# Altium footprint library Connector_Wire.PcbLib: 326 footprints (part 20 of 21)
Each footprint in its own frame and in the unit in brackets; x right, y up, seen from the top. Pads: shape width x height; smd on the part's side, far side on the other; paste and mask are expansions set on the pad; w line width, h text height; cw(c..) or ccw(c..) is an arc to the next point about the centre after c.
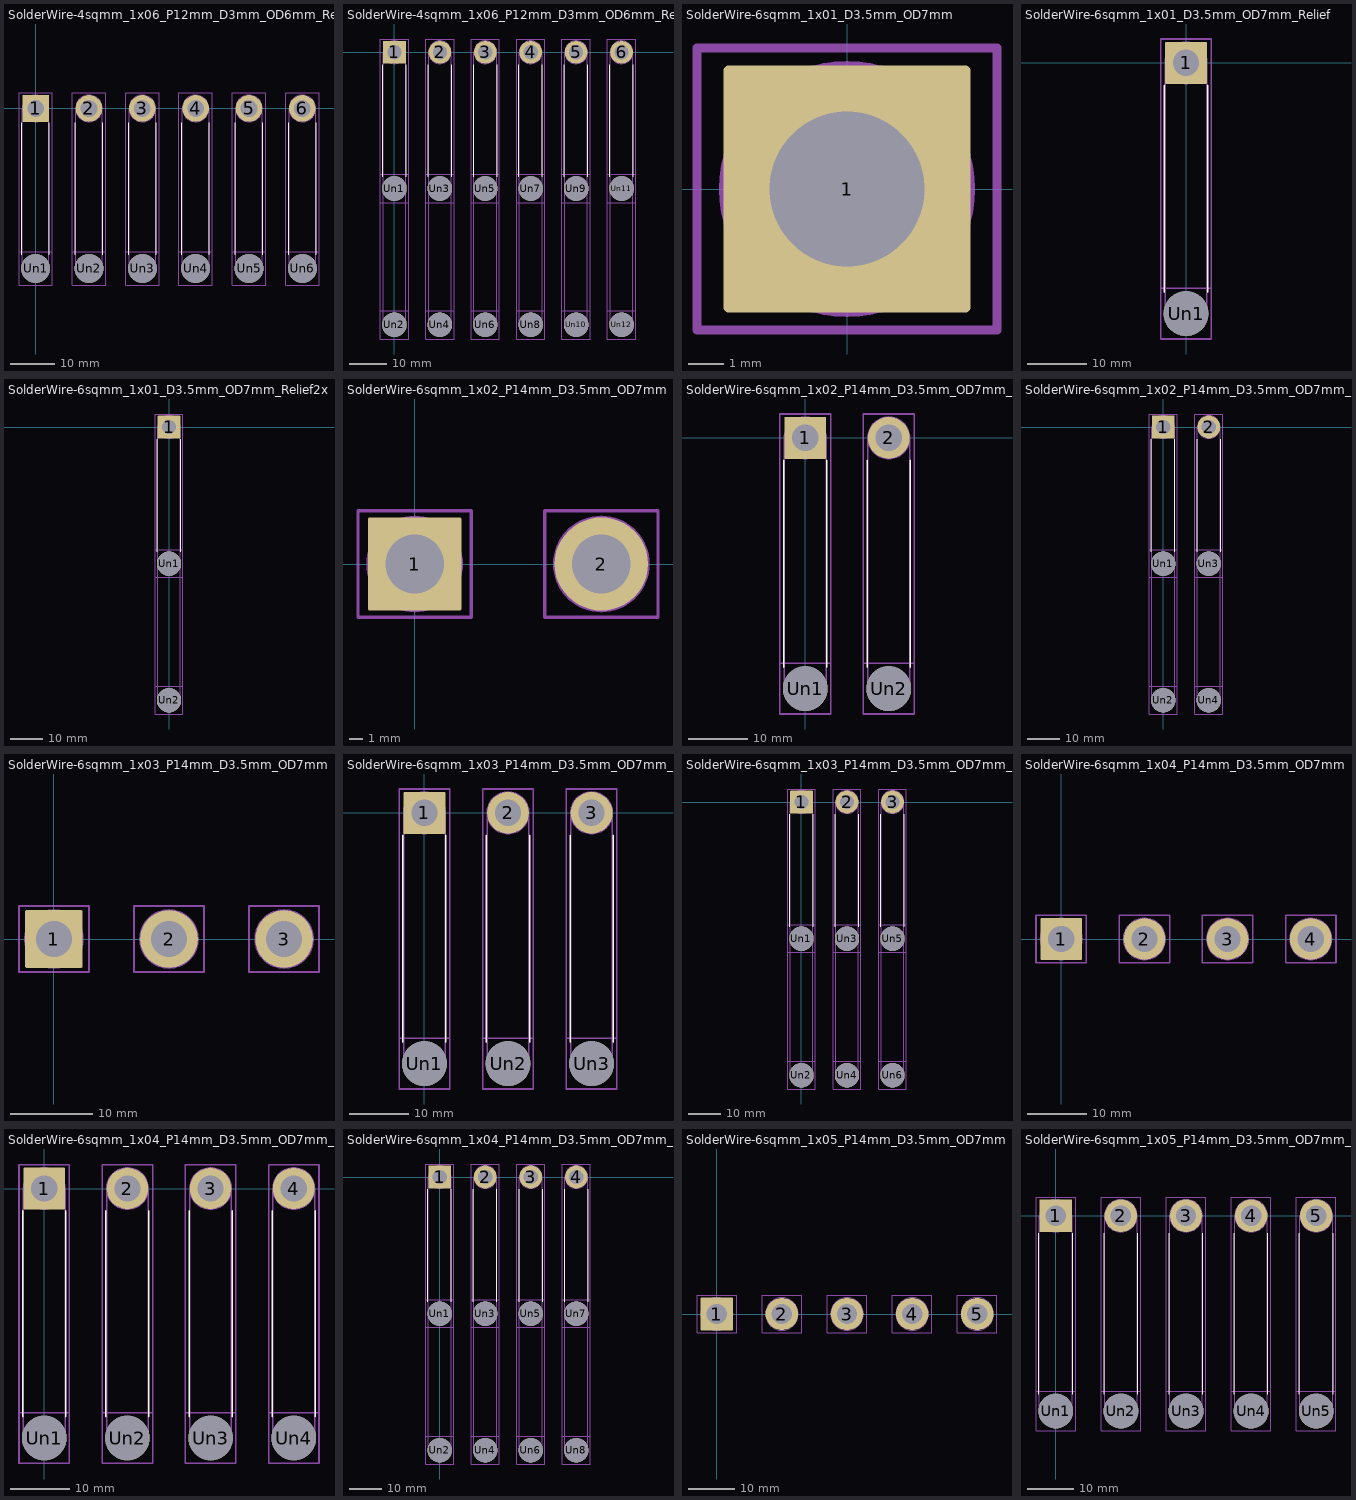
[diagram p19: the footprints below, top view; thin cyan lines are the x and y axes]

## SolderWire-4sqmm_1x06_P12mm_D3mm_OD6mm_Relief [mm]
pads (12):
  rrect4% 6x6 hole 3.75: 1(0,0)
  round 6 hole 3.75: 2(12,0) 3(24,0) 4(36,0) 5(48,0) 6(60,0)
  round 6.5 hole 6.5: Un1(0,-36) Un2(12,-36) Un3(24,-36) Un4(36,-36) Un5(48,-36) Un6(60,-36)
F.SilkS:
  lines w0.254: -3.11,-32.89 -3.11,-3.26 ; 3.11,-32.89 3.11,-3.26 ; 8.89,-32.89 8.89,-3.26 ; 15.11,-32.89 15.11,-3.26 ; 20.89,-32.89 20.89,-3.26 ; 27.11,-32.89 27.11,-3.26 ; 32.89,-32.89 32.89,-3.26 ; 39.11,-32.89 39.11,-3.26 ; 44.89,-32.89 44.89,-3.26 ; 51.11,-32.89 51.11,-3.26 ; 56.89,-32.89 56.89,-3.26 ; 63.11,-32.89 63.11,-3.26
Top Assembly:
  circle w0.254: c60,-36 r3
  circle w0.254: c60,0 r3
  circle w0.254: c48,-36 r3
  circle w0.254: c48,0 r3
  circle w0.254: c36,-36 r3
  circle w0.254: c36,0 r3
  circle w0.254: c24,-36 r3
  circle w0.254: c24,0 r3
  circle w0.254: c12,-36 r3
  circle w0.254: c12,0 r3
  circle w0.254: c0,-36 r3
  circle w0.254: c0,0 r3
  lines w0.254: -3,-36 -3,0 ; 3,-36 3,0 ; 9,-36 9,0 ; 15,-36 15,0 ; 21,-36 21,0 ; 27,-36 27,0 ; 33,-36 33,0 ; 39,-36 39,0 ; 45,-36 45,0 ; 51,-36 51,0 ; 57,-36 57,0 ; 63,-36 63,0
  text "'.Designator'" at 25.953,-18.84 h1
Top Courtyard:
  lines w0.254: -3.75,-39.75 3.75,-39.75 3.75,3.5 -3.75,3.5 -3.75,-39.75 ; 8.25,-39.75 15.75,-39.75 15.75,3.5 8.25,3.5 8.25,-39.75 ; 20.25,-39.75 27.75,-39.75 27.75,3.5 20.25,3.5 20.25,-39.75 ; 32.25,-39.75 39.75,-39.75 39.75,3.5 32.25,3.5 32.25,-39.75 ; 44.25,-39.75 51.75,-39.75 51.75,3.5 44.25,3.5 44.25,-39.75 ; 56.25,-39.75 63.75,-39.75 63.75,3.5 56.25,3.5 56.25,-39.75
Bottom Courtyard:
  lines w0.254: -3.75,-39.75 3.75,-39.75 3.75,-32.25 -3.75,-32.25 -3.75,-39.75 ; 8.25,-39.75 15.75,-39.75 15.75,-32.25 8.25,-32.25 8.25,-39.75 ; 20.25,-39.75 27.75,-39.75 27.75,-32.25 20.25,-32.25 20.25,-39.75 ; 32.25,-39.75 39.75,-39.75 39.75,-32.25 32.25,-32.25 32.25,-39.75 ; 44.25,-39.75 51.75,-39.75 51.75,-32.25 44.25,-32.25 44.25,-39.75 ; 56.25,-39.75 63.75,-39.75 63.75,-32.25 56.25,-32.25 56.25,-39.75
Top Designator:
  text ".Designator" at 22.382,-18.633 h1.52

## SolderWire-4sqmm_1x06_P12mm_D3mm_OD6mm_Relief2x [mm]
pads (18):
  rrect4% 6x6 hole 3.75: 1(0,0)
  round 6 hole 3.75: 2(12,0) 3(24,0) 4(36,0) 5(48,0) 6(60,0)
  round 6.5 hole 6.5: Un1(0,-36) Un2(0,-72) Un3(12,-36) Un4(12,-72) Un5(24,-36) Un6(24,-72) Un7(36,-36) Un8(36,-72) Un9(48,-36) Un10(48,-72) Un11(60,-36) Un12(60,-72)
F.SilkS:
  lines w0.254: -3.11,-32.89 -3.11,-3.26 ; 3.11,-32.89 3.11,-3.26 ; 8.89,-32.89 8.89,-3.26 ; 15.11,-32.89 15.11,-3.26 ; 20.89,-32.89 20.89,-3.26 ; 27.11,-32.89 27.11,-3.26 ; 32.89,-32.89 32.89,-3.26 ; 39.11,-32.89 39.11,-3.26 ; 44.89,-32.89 44.89,-3.26 ; 51.11,-32.89 51.11,-3.26 ; 56.89,-32.89 56.89,-3.26 ; 63.11,-32.89 63.11,-3.26
B.SilkS:
  lines w0.254: -3.11,-68.89 -3.11,-39.11 ; 3.11,-68.89 3.11,-39.11 ; 8.89,-68.89 8.89,-39.11 ; 15.11,-68.89 15.11,-39.11 ; 20.89,-68.89 20.89,-39.11 ; 27.11,-68.89 27.11,-39.11 ; 32.89,-68.89 32.89,-39.11 ; 39.11,-68.89 39.11,-39.11 ; 44.89,-68.89 44.89,-39.11 ; 51.11,-68.89 51.11,-39.11 ; 56.89,-68.89 56.89,-39.11 ; 63.11,-68.89 63.11,-39.11
Top Assembly:
  circle w0.254: c60,-72 r3
  circle w0.254: c60,-36 r3
  circle w0.254: c60,0 r3
  circle w0.254: c48,-72 r3
  circle w0.254: c48,-36 r3
  circle w0.254: c48,0 r3
  circle w0.254: c36,-72 r3
  circle w0.254: c36,-36 r3
  circle w0.254: c36,0 r3
  circle w0.254: c24,-72 r3
  circle w0.254: c24,-36 r3
  circle w0.254: c24,0 r3
  circle w0.254: c12,-72 r3
  circle w0.254: c12,-36 r3
  circle w0.254: c12,0 r3
  circle w0.254: c0,-72 r3
  circle w0.254: c0,-36 r3
  circle w0.254: c0,0 r3
  lines w0.254: -3,-36 -3,0 ; 3,-36 3,0 ; 9,-36 9,0 ; 15,-36 15,0 ; 21,-36 21,0 ; 27,-36 27,0 ; 33,-36 33,0 ; 39,-36 39,0 ; 45,-36 45,0 ; 51,-36 51,0 ; 57,-36 57,0 ; 63,-36 63,0
  text "'.Designator'" at 25.953,-18.84 h1
Bottom Assembly:
  circle w0.254: c60,-72 r3
  circle w0.254: c60,-36 r3
  circle w0.254: c48,-72 r3
  circle w0.254: c48,-36 r3
  circle w0.254: c36,-72 r3
  circle w0.254: c36,-36 r3
  circle w0.254: c24,-72 r3
  circle w0.254: c24,-36 r3
  circle w0.254: c12,-72 r3
  circle w0.254: c12,-36 r3
  circle w0.254: c0,-72 r3
  circle w0.254: c0,-36 r3
  lines w0.254: -3,-72 -3,-36 ; 3,-72 3,-36 ; 9,-72 9,-36 ; 15,-72 15,-36 ; 21,-72 21,-36 ; 27,-72 27,-36 ; 33,-72 33,-36 ; 39,-72 39,-36 ; 45,-72 45,-36 ; 51,-72 51,-36 ; 57,-72 57,-36 ; 63,-72 63,-36
Top Courtyard:
  lines w0.254: -3.75,-75.75 3.75,-75.75 3.75,-68.25 -3.75,-68.25 -3.75,-75.75 ; -3.75,-39.75 3.75,-39.75 3.75,3.5 -3.75,3.5 -3.75,-39.75 ; 8.25,-75.75 15.75,-75.75 15.75,-68.25 8.25,-68.25 8.25,-75.75 ; 8.25,-39.75 15.75,-39.75 15.75,3.5 8.25,3.5 8.25,-39.75 ; 20.25,-75.75 27.75,-75.75 27.75,-68.25 20.25,-68.25 20.25,-75.75 ; 20.25,-39.75 27.75,-39.75 27.75,3.5 20.25,3.5 20.25,-39.75 ; 32.25,-75.75 39.75,-75.75 39.75,-68.25 32.25,-68.25 32.25,-75.75 ; 32.25,-39.75 39.75,-39.75 39.75,3.5 32.25,3.5 32.25,-39.75 ; 44.25,-75.75 51.75,-75.75 51.75,-68.25 44.25,-68.25 44.25,-75.75 ; 44.25,-39.75 51.75,-39.75 51.75,3.5 44.25,3.5 44.25,-39.75 ; 56.25,-75.75 63.75,-75.75 63.75,-68.25 56.25,-68.25 56.25,-75.75 ; 56.25,-39.75 63.75,-39.75 63.75,3.5 56.25,3.5 56.25,-39.75
Bottom Courtyard:
  lines w0.254: -3.75,-75.75 3.75,-75.75 3.75,-32.25 -3.75,-32.25 -3.75,-75.75 ; 8.25,-75.75 15.75,-75.75 15.75,-32.25 8.25,-32.25 8.25,-75.75 ; 20.25,-75.75 27.75,-75.75 27.75,-32.25 20.25,-32.25 20.25,-75.75 ; 32.25,-75.75 39.75,-75.75 39.75,-32.25 32.25,-32.25 32.25,-75.75 ; 44.25,-75.75 51.75,-75.75 51.75,-32.25 44.25,-32.25 44.25,-75.75 ; 56.25,-75.75 63.75,-75.75 63.75,-32.25 56.25,-32.25 56.25,-75.75
Top Designator:
  text ".Designator" at 22.382,-36.633 h1.52

## SolderWire-6sqmm_1x01_D3.5mm_OD7mm [mm]
pads (1):
  rrect4% 7x7 hole 4.4: 1(0,0)
Top Assembly:
  circle w0.254: c0,0 r3.5
  text "'.Designator'" at -4.047,-0.84 h1
Top Courtyard:
  lines w0.254: -4.25,-4 4.25,-4 4.25,4 -4.25,4 -4.25,-4
Top Designator:
  text ".Designator" at -7.618,-0.508 h1.52

## SolderWire-6sqmm_1x01_D3.5mm_OD7mm_Relief [mm]
pads (2):
  rrect4% 7x7 hole 4.4: 1(0,0)
  round 7.5 hole 7.5: Un1(0,-42)
F.SilkS:
  lines w0.254: -3.61,-38.39 -3.61,-3.76 ; 3.61,-38.39 3.61,-3.76
Top Assembly:
  circle w0.254: c0,-42 r3.5
  circle w0.254: c0,0 r3.5
  lines w0.254: -3.5,-42 -3.5,0 ; 3.5,-42 3.5,0
  text "'.Designator'" at -4.047,-21.84 h1
Top Courtyard:
  lines w0.254: -4.25,-46.25 4.25,-46.25 4.25,4 -4.25,4 -4.25,-46.25
Bottom Courtyard:
  lines w0.254: -4.25,-46.25 4.25,-46.25 4.25,-37.75 -4.25,-37.75 -4.25,-46.25
Top Designator:
  text ".Designator" at -7.618,-21.633 h1.52

## SolderWire-6sqmm_1x01_D3.5mm_OD7mm_Relief2x [mm]
pads (3):
  rrect4% 7x7 hole 4.4: 1(0,0)
  round 7.5 hole 7.5: Un1(0,-42) Un2(0,-84)
F.SilkS:
  lines w0.254: -3.61,-38.39 -3.61,-3.76 ; 3.61,-38.39 3.61,-3.76
B.SilkS:
  lines w0.254: -3.61,-80.39 -3.61,-45.61 ; 3.61,-80.39 3.61,-45.61
Top Assembly:
  circle w0.254: c0,-84 r3.5
  circle w0.254: c0,-42 r3.5
  circle w0.254: c0,0 r3.5
  lines w0.254: -3.5,-42 -3.5,0 ; 3.5,-42 3.5,0
  text "'.Designator'" at -4.047,-21.84 h1
Bottom Assembly:
  circle w0.254: c0,-84 r3.5
  circle w0.254: c0,-42 r3.5
  lines w0.254: -3.5,-84 -3.5,-42 ; 3.5,-84 3.5,-42
Top Courtyard:
  lines w0.254: -4.25,-88.25 4.25,-88.25 4.25,-79.75 -4.25,-79.75 -4.25,-88.25 ; -4.25,-46.25 4.25,-46.25 4.25,4 -4.25,4 -4.25,-46.25
Bottom Courtyard:
  lines w0.254: -4.25,-88.25 4.25,-88.25 4.25,-37.75 -4.25,-37.75 -4.25,-88.25
Top Designator:
  text ".Designator" at -7.618,-42.633 h1.52

## SolderWire-6sqmm_1x02_P14mm_D3.5mm_OD7mm [mm]
pads (2):
  rrect4% 7x7 hole 4.4: 1(0,0)
  round 7 hole 4.4: 2(14,0)
Top Assembly:
  circle w0.254: c14,0 r3.5
  circle w0.254: c0,0 r3.5
  text "'.Designator'" at 2.953,-0.84 h1
Top Courtyard:
  lines w0.254: -4.25,-4 4.25,-4 4.25,4 -4.25,4 -4.25,-4 ; 9.75,-4 18.25,-4 18.25,4 9.75,4 9.75,-4
Top Designator:
  text ".Designator" at -0.618,-0.508 h1.52

## SolderWire-6sqmm_1x02_P14mm_D3.5mm_OD7mm_Relief [mm]
pads (4):
  rrect4% 7x7 hole 4.4: 1(0,0)
  round 7 hole 4.4: 2(14,0)
  round 7.5 hole 7.5: Un1(0,-42) Un2(14,-42)
F.SilkS:
  lines w0.254: -3.61,-38.39 -3.61,-3.76 ; 3.61,-38.39 3.61,-3.76 ; 10.39,-38.39 10.39,-3.76 ; 17.61,-38.39 17.61,-3.76
Top Assembly:
  circle w0.254: c14,-42 r3.5
  circle w0.254: c14,0 r3.5
  circle w0.254: c0,-42 r3.5
  circle w0.254: c0,0 r3.5
  lines w0.254: -3.5,-42 -3.5,0 ; 3.5,-42 3.5,0 ; 10.5,-42 10.5,0 ; 17.5,-42 17.5,0
  text "'.Designator'" at 2.953,-21.84 h1
Top Courtyard:
  lines w0.254: -4.25,-46.25 4.25,-46.25 4.25,4 -4.25,4 -4.25,-46.25 ; 9.75,-46.25 18.25,-46.25 18.25,4 9.75,4 9.75,-46.25
Bottom Courtyard:
  lines w0.254: -4.25,-46.25 4.25,-46.25 4.25,-37.75 -4.25,-37.75 -4.25,-46.25 ; 9.75,-46.25 18.25,-46.25 18.25,-37.75 9.75,-37.75 9.75,-46.25
Top Designator:
  text ".Designator" at -0.618,-21.633 h1.52

## SolderWire-6sqmm_1x02_P14mm_D3.5mm_OD7mm_Relief2x [mm]
pads (6):
  rrect4% 7x7 hole 4.4: 1(0,0)
  round 7 hole 4.4: 2(14,0)
  round 7.5 hole 7.5: Un1(0,-42) Un2(0,-84) Un3(14,-42) Un4(14,-84)
F.SilkS:
  lines w0.254: -3.61,-38.39 -3.61,-3.76 ; 3.61,-38.39 3.61,-3.76 ; 10.39,-38.39 10.39,-3.76 ; 17.61,-38.39 17.61,-3.76
B.SilkS:
  lines w0.254: -3.61,-80.39 -3.61,-45.61 ; 3.61,-80.39 3.61,-45.61 ; 10.39,-80.39 10.39,-45.61 ; 17.61,-80.39 17.61,-45.61
Top Assembly:
  circle w0.254: c14,-84 r3.5
  circle w0.254: c14,-42 r3.5
  circle w0.254: c14,0 r3.5
  circle w0.254: c0,-84 r3.5
  circle w0.254: c0,-42 r3.5
  circle w0.254: c0,0 r3.5
  lines w0.254: -3.5,-42 -3.5,0 ; 3.5,-42 3.5,0 ; 10.5,-42 10.5,0 ; 17.5,-42 17.5,0
  text "'.Designator'" at 2.953,-21.84 h1
Bottom Assembly:
  circle w0.254: c14,-84 r3.5
  circle w0.254: c14,-42 r3.5
  circle w0.254: c0,-84 r3.5
  circle w0.254: c0,-42 r3.5
  lines w0.254: -3.5,-84 -3.5,-42 ; 3.5,-84 3.5,-42 ; 10.5,-84 10.5,-42 ; 17.5,-84 17.5,-42
Top Courtyard:
  lines w0.254: -4.25,-88.25 4.25,-88.25 4.25,-79.75 -4.25,-79.75 -4.25,-88.25 ; -4.25,-46.25 4.25,-46.25 4.25,4 -4.25,4 -4.25,-46.25 ; 9.75,-88.25 18.25,-88.25 18.25,-79.75 9.75,-79.75 9.75,-88.25 ; 9.75,-46.25 18.25,-46.25 18.25,4 9.75,4 9.75,-46.25
Bottom Courtyard:
  lines w0.254: -4.25,-88.25 4.25,-88.25 4.25,-37.75 -4.25,-37.75 -4.25,-88.25 ; 9.75,-88.25 18.25,-88.25 18.25,-37.75 9.75,-37.75 9.75,-88.25
Top Designator:
  text ".Designator" at -0.618,-42.633 h1.52

## SolderWire-6sqmm_1x03_P14mm_D3.5mm_OD7mm [mm]
pads (3):
  rrect4% 7x7 hole 4.4: 1(0,0)
  round 7 hole 4.4: 2(14,0) 3(28,0)
Top Assembly:
  circle w0.254: c28,0 r3.5
  circle w0.254: c14,0 r3.5
  circle w0.254: c0,0 r3.5
  text "'.Designator'" at 9.953,-0.84 h1
Top Courtyard:
  lines w0.254: -4.25,-4 4.25,-4 4.25,4 -4.25,4 -4.25,-4 ; 9.75,-4 18.25,-4 18.25,4 9.75,4 9.75,-4 ; 23.75,-4 32.25,-4 32.25,4 23.75,4 23.75,-4
Top Designator:
  text ".Designator" at 6.382,-0.508 h1.52

## SolderWire-6sqmm_1x03_P14mm_D3.5mm_OD7mm_Relief [mm]
pads (6):
  rrect4% 7x7 hole 4.4: 1(0,0)
  round 7 hole 4.4: 2(14,0) 3(28,0)
  round 7.5 hole 7.5: Un1(0,-42) Un2(14,-42) Un3(28,-42)
F.SilkS:
  lines w0.254: -3.61,-38.39 -3.61,-3.76 ; 3.61,-38.39 3.61,-3.76 ; 10.39,-38.39 10.39,-3.76 ; 17.61,-38.39 17.61,-3.76 ; 24.39,-38.39 24.39,-3.76 ; 31.61,-38.39 31.61,-3.76
Top Assembly:
  circle w0.254: c28,-42 r3.5
  circle w0.254: c28,0 r3.5
  circle w0.254: c14,-42 r3.5
  circle w0.254: c14,0 r3.5
  circle w0.254: c0,-42 r3.5
  circle w0.254: c0,0 r3.5
  lines w0.254: -3.5,-42 -3.5,0 ; 3.5,-42 3.5,0 ; 10.5,-42 10.5,0 ; 17.5,-42 17.5,0 ; 24.5,-42 24.5,0 ; 31.5,-42 31.5,0
  text "'.Designator'" at 9.953,-21.84 h1
Top Courtyard:
  lines w0.254: -4.25,-46.25 4.25,-46.25 4.25,4 -4.25,4 -4.25,-46.25 ; 9.75,-46.25 18.25,-46.25 18.25,4 9.75,4 9.75,-46.25 ; 23.75,-46.25 32.25,-46.25 32.25,4 23.75,4 23.75,-46.25
Bottom Courtyard:
  lines w0.254: -4.25,-46.25 4.25,-46.25 4.25,-37.75 -4.25,-37.75 -4.25,-46.25 ; 9.75,-46.25 18.25,-46.25 18.25,-37.75 9.75,-37.75 9.75,-46.25 ; 23.75,-46.25 32.25,-46.25 32.25,-37.75 23.75,-37.75 23.75,-46.25
Top Designator:
  text ".Designator" at 6.382,-21.633 h1.52

## SolderWire-6sqmm_1x03_P14mm_D3.5mm_OD7mm_Relief2x [mm]
pads (9):
  rrect4% 7x7 hole 4.4: 1(0,0)
  round 7 hole 4.4: 2(14,0) 3(28,0)
  round 7.5 hole 7.5: Un1(0,-42) Un2(0,-84) Un3(14,-42) Un4(14,-84) Un5(28,-42) Un6(28,-84)
F.SilkS:
  lines w0.254: -3.61,-38.39 -3.61,-3.76 ; 3.61,-38.39 3.61,-3.76 ; 10.39,-38.39 10.39,-3.76 ; 17.61,-38.39 17.61,-3.76 ; 24.39,-38.39 24.39,-3.76 ; 31.61,-38.39 31.61,-3.76
B.SilkS:
  lines w0.254: -3.61,-80.39 -3.61,-45.61 ; 3.61,-80.39 3.61,-45.61 ; 10.39,-80.39 10.39,-45.61 ; 17.61,-80.39 17.61,-45.61 ; 24.39,-80.39 24.39,-45.61 ; 31.61,-80.39 31.61,-45.61
Top Assembly:
  circle w0.254: c28,-84 r3.5
  circle w0.254: c28,-42 r3.5
  circle w0.254: c28,0 r3.5
  circle w0.254: c14,-84 r3.5
  circle w0.254: c14,-42 r3.5
  circle w0.254: c14,0 r3.5
  circle w0.254: c0,-84 r3.5
  circle w0.254: c0,-42 r3.5
  circle w0.254: c0,0 r3.5
  lines w0.254: -3.5,-42 -3.5,0 ; 3.5,-42 3.5,0 ; 10.5,-42 10.5,0 ; 17.5,-42 17.5,0 ; 24.5,-42 24.5,0 ; 31.5,-42 31.5,0
  text "'.Designator'" at 9.953,-21.84 h1
Bottom Assembly:
  circle w0.254: c28,-84 r3.5
  circle w0.254: c28,-42 r3.5
  circle w0.254: c14,-84 r3.5
  circle w0.254: c14,-42 r3.5
  circle w0.254: c0,-84 r3.5
  circle w0.254: c0,-42 r3.5
  lines w0.254: -3.5,-84 -3.5,-42 ; 3.5,-84 3.5,-42 ; 10.5,-84 10.5,-42 ; 17.5,-84 17.5,-42 ; 24.5,-84 24.5,-42 ; 31.5,-84 31.5,-42
Top Courtyard:
  lines w0.254: -4.25,-88.25 4.25,-88.25 4.25,-79.75 -4.25,-79.75 -4.25,-88.25 ; -4.25,-46.25 4.25,-46.25 4.25,4 -4.25,4 -4.25,-46.25 ; 9.75,-88.25 18.25,-88.25 18.25,-79.75 9.75,-79.75 9.75,-88.25 ; 9.75,-46.25 18.25,-46.25 18.25,4 9.75,4 9.75,-46.25 ; 23.75,-88.25 32.25,-88.25 32.25,-79.75 23.75,-79.75 23.75,-88.25 ; 23.75,-46.25 32.25,-46.25 32.25,4 23.75,4 23.75,-46.25
Bottom Courtyard:
  lines w0.254: -4.25,-88.25 4.25,-88.25 4.25,-37.75 -4.25,-37.75 -4.25,-88.25 ; 9.75,-88.25 18.25,-88.25 18.25,-37.75 9.75,-37.75 9.75,-88.25 ; 23.75,-88.25 32.25,-88.25 32.25,-37.75 23.75,-37.75 23.75,-88.25
Top Designator:
  text ".Designator" at 6.382,-42.633 h1.52

## SolderWire-6sqmm_1x04_P14mm_D3.5mm_OD7mm [mm]
pads (4):
  rrect4% 7x7 hole 4.4: 1(0,0)
  round 7 hole 4.4: 2(14,0) 3(28,0) 4(42,0)
Top Assembly:
  circle w0.254: c42,0 r3.5
  circle w0.254: c28,0 r3.5
  circle w0.254: c14,0 r3.5
  circle w0.254: c0,0 r3.5
  text "'.Designator'" at 16.953,-0.84 h1
Top Courtyard:
  lines w0.254: -4.25,-4 4.25,-4 4.25,4 -4.25,4 -4.25,-4 ; 9.75,-4 18.25,-4 18.25,4 9.75,4 9.75,-4 ; 23.75,-4 32.25,-4 32.25,4 23.75,4 23.75,-4 ; 37.75,-4 46.25,-4 46.25,4 37.75,4 37.75,-4
Top Designator:
  text ".Designator" at 13.382,-0.508 h1.52

## SolderWire-6sqmm_1x04_P14mm_D3.5mm_OD7mm_Relief [mm]
pads (8):
  rrect4% 7x7 hole 4.4: 1(0,0)
  round 7 hole 4.4: 2(14,0) 3(28,0) 4(42,0)
  round 7.5 hole 7.5: Un1(0,-42) Un2(14,-42) Un3(28,-42) Un4(42,-42)
F.SilkS:
  lines w0.254: -3.61,-38.39 -3.61,-3.76 ; 3.61,-38.39 3.61,-3.76 ; 10.39,-38.39 10.39,-3.76 ; 17.61,-38.39 17.61,-3.76 ; 24.39,-38.39 24.39,-3.76 ; 31.61,-38.39 31.61,-3.76 ; 38.39,-38.39 38.39,-3.76 ; 45.61,-38.39 45.61,-3.76
Top Assembly:
  circle w0.254: c42,-42 r3.5
  circle w0.254: c42,0 r3.5
  circle w0.254: c28,-42 r3.5
  circle w0.254: c28,0 r3.5
  circle w0.254: c14,-42 r3.5
  circle w0.254: c14,0 r3.5
  circle w0.254: c0,-42 r3.5
  circle w0.254: c0,0 r3.5
  lines w0.254: -3.5,-42 -3.5,0 ; 3.5,-42 3.5,0 ; 10.5,-42 10.5,0 ; 17.5,-42 17.5,0 ; 24.5,-42 24.5,0 ; 31.5,-42 31.5,0 ; 38.5,-42 38.5,0 ; 45.5,-42 45.5,0
  text "'.Designator'" at 16.953,-21.84 h1
Top Courtyard:
  lines w0.254: -4.25,-46.25 4.25,-46.25 4.25,4 -4.25,4 -4.25,-46.25 ; 9.75,-46.25 18.25,-46.25 18.25,4 9.75,4 9.75,-46.25 ; 23.75,-46.25 32.25,-46.25 32.25,4 23.75,4 23.75,-46.25 ; 37.75,-46.25 46.25,-46.25 46.25,4 37.75,4 37.75,-46.25
Bottom Courtyard:
  lines w0.254: -4.25,-46.25 4.25,-46.25 4.25,-37.75 -4.25,-37.75 -4.25,-46.25 ; 9.75,-46.25 18.25,-46.25 18.25,-37.75 9.75,-37.75 9.75,-46.25 ; 23.75,-46.25 32.25,-46.25 32.25,-37.75 23.75,-37.75 23.75,-46.25 ; 37.75,-46.25 46.25,-46.25 46.25,-37.75 37.75,-37.75 37.75,-46.25
Top Designator:
  text ".Designator" at 13.382,-21.633 h1.52

## SolderWire-6sqmm_1x04_P14mm_D3.5mm_OD7mm_Relief2x [mm]
pads (12):
  rrect4% 7x7 hole 4.4: 1(0,0)
  round 7 hole 4.4: 2(14,0) 3(28,0) 4(42,0)
  round 7.5 hole 7.5: Un1(0,-42) Un2(0,-84) Un3(14,-42) Un4(14,-84) Un5(28,-42) Un6(28,-84) Un7(42,-42) Un8(42,-84)
F.SilkS:
  lines w0.254: -3.61,-38.39 -3.61,-3.76 ; 3.61,-38.39 3.61,-3.76 ; 10.39,-38.39 10.39,-3.76 ; 17.61,-38.39 17.61,-3.76 ; 24.39,-38.39 24.39,-3.76 ; 31.61,-38.39 31.61,-3.76 ; 38.39,-38.39 38.39,-3.76 ; 45.61,-38.39 45.61,-3.76
B.SilkS:
  lines w0.254: -3.61,-80.39 -3.61,-45.61 ; 3.61,-80.39 3.61,-45.61 ; 10.39,-80.39 10.39,-45.61 ; 17.61,-80.39 17.61,-45.61 ; 24.39,-80.39 24.39,-45.61 ; 31.61,-80.39 31.61,-45.61 ; 38.39,-80.39 38.39,-45.61 ; 45.61,-80.39 45.61,-45.61
Top Assembly:
  circle w0.254: c42,-84 r3.5
  circle w0.254: c42,-42 r3.5
  circle w0.254: c42,0 r3.5
  circle w0.254: c28,-84 r3.5
  circle w0.254: c28,-42 r3.5
  circle w0.254: c28,0 r3.5
  circle w0.254: c14,-84 r3.5
  circle w0.254: c14,-42 r3.5
  circle w0.254: c14,0 r3.5
  circle w0.254: c0,-84 r3.5
  circle w0.254: c0,-42 r3.5
  circle w0.254: c0,0 r3.5
  lines w0.254: -3.5,-42 -3.5,0 ; 3.5,-42 3.5,0 ; 10.5,-42 10.5,0 ; 17.5,-42 17.5,0 ; 24.5,-42 24.5,0 ; 31.5,-42 31.5,0 ; 38.5,-42 38.5,0 ; 45.5,-42 45.5,0
  text "'.Designator'" at 16.953,-21.84 h1
Bottom Assembly:
  circle w0.254: c42,-84 r3.5
  circle w0.254: c42,-42 r3.5
  circle w0.254: c28,-84 r3.5
  circle w0.254: c28,-42 r3.5
  circle w0.254: c14,-84 r3.5
  circle w0.254: c14,-42 r3.5
  circle w0.254: c0,-84 r3.5
  circle w0.254: c0,-42 r3.5
  lines w0.254: -3.5,-84 -3.5,-42 ; 3.5,-84 3.5,-42 ; 10.5,-84 10.5,-42 ; 17.5,-84 17.5,-42 ; 24.5,-84 24.5,-42 ; 31.5,-84 31.5,-42 ; 38.5,-84 38.5,-42 ; 45.5,-84 45.5,-42
Top Courtyard:
  lines w0.254: -4.25,-88.25 4.25,-88.25 4.25,-79.75 -4.25,-79.75 -4.25,-88.25 ; -4.25,-46.25 4.25,-46.25 4.25,4 -4.25,4 -4.25,-46.25 ; 9.75,-88.25 18.25,-88.25 18.25,-79.75 9.75,-79.75 9.75,-88.25 ; 9.75,-46.25 18.25,-46.25 18.25,4 9.75,4 9.75,-46.25 ; 23.75,-88.25 32.25,-88.25 32.25,-79.75 23.75,-79.75 23.75,-88.25 ; 23.75,-46.25 32.25,-46.25 32.25,4 23.75,4 23.75,-46.25 ; 37.75,-88.25 46.25,-88.25 46.25,-79.75 37.75,-79.75 37.75,-88.25 ; 37.75,-46.25 46.25,-46.25 46.25,4 37.75,4 37.75,-46.25
Bottom Courtyard:
  lines w0.254: -4.25,-88.25 4.25,-88.25 4.25,-37.75 -4.25,-37.75 -4.25,-88.25 ; 9.75,-88.25 18.25,-88.25 18.25,-37.75 9.75,-37.75 9.75,-88.25 ; 23.75,-88.25 32.25,-88.25 32.25,-37.75 23.75,-37.75 23.75,-88.25 ; 37.75,-88.25 46.25,-88.25 46.25,-37.75 37.75,-37.75 37.75,-88.25
Top Designator:
  text ".Designator" at 13.382,-42.633 h1.52

## SolderWire-6sqmm_1x05_P14mm_D3.5mm_OD7mm [mm]
pads (5):
  rrect4% 7x7 hole 4.4: 1(0,0)
  round 7 hole 4.4: 2(14,0) 3(28,0) 4(42,0) 5(56,0)
Top Assembly:
  circle w0.254: c56,0 r3.5
  circle w0.254: c42,0 r3.5
  circle w0.254: c28,0 r3.5
  circle w0.254: c14,0 r3.5
  circle w0.254: c0,0 r3.5
  text "'.Designator'" at 23.953,-0.84 h1
Top Courtyard:
  lines w0.254: -4.25,-4 4.25,-4 4.25,4 -4.25,4 -4.25,-4 ; 9.75,-4 18.25,-4 18.25,4 9.75,4 9.75,-4 ; 23.75,-4 32.25,-4 32.25,4 23.75,4 23.75,-4 ; 37.75,-4 46.25,-4 46.25,4 37.75,4 37.75,-4 ; 51.75,-4 60.25,-4 60.25,4 51.75,4 51.75,-4
Top Designator:
  text ".Designator" at 20.382,-0.508 h1.52

## SolderWire-6sqmm_1x05_P14mm_D3.5mm_OD7mm_Relief [mm]
pads (10):
  rrect4% 7x7 hole 4.4: 1(0,0)
  round 7 hole 4.4: 2(14,0) 3(28,0) 4(42,0) 5(56,0)
  round 7.5 hole 7.5: Un1(0,-42) Un2(14,-42) Un3(28,-42) Un4(42,-42) Un5(56,-42)
F.SilkS:
  lines w0.254: -3.61,-38.39 -3.61,-3.76 ; 3.61,-38.39 3.61,-3.76 ; 10.39,-38.39 10.39,-3.76 ; 17.61,-38.39 17.61,-3.76 ; 24.39,-38.39 24.39,-3.76 ; 31.61,-38.39 31.61,-3.76 ; 38.39,-38.39 38.39,-3.76 ; 45.61,-38.39 45.61,-3.76 ; 52.39,-38.39 52.39,-3.76 ; 59.61,-38.39 59.61,-3.76
Top Assembly:
  circle w0.254: c56,-42 r3.5
  circle w0.254: c56,0 r3.5
  circle w0.254: c42,-42 r3.5
  circle w0.254: c42,0 r3.5
  circle w0.254: c28,-42 r3.5
  circle w0.254: c28,0 r3.5
  circle w0.254: c14,-42 r3.5
  circle w0.254: c14,0 r3.5
  circle w0.254: c0,-42 r3.5
  circle w0.254: c0,0 r3.5
  lines w0.254: -3.5,-42 -3.5,0 ; 3.5,-42 3.5,0 ; 10.5,-42 10.5,0 ; 17.5,-42 17.5,0 ; 24.5,-42 24.5,0 ; 31.5,-42 31.5,0 ; 38.5,-42 38.5,0 ; 45.5,-42 45.5,0 ; 52.5,-42 52.5,0 ; 59.5,-42 59.5,0
  text "'.Designator'" at 23.953,-21.84 h1
Top Courtyard:
  lines w0.254: -4.25,-46.25 4.25,-46.25 4.25,4 -4.25,4 -4.25,-46.25 ; 9.75,-46.25 18.25,-46.25 18.25,4 9.75,4 9.75,-46.25 ; 23.75,-46.25 32.25,-46.25 32.25,4 23.75,4 23.75,-46.25 ; 37.75,-46.25 46.25,-46.25 46.25,4 37.75,4 37.75,-46.25 ; 51.75,-46.25 60.25,-46.25 60.25,4 51.75,4 51.75,-46.25
Bottom Courtyard:
  lines w0.254: -4.25,-46.25 4.25,-46.25 4.25,-37.75 -4.25,-37.75 -4.25,-46.25 ; 9.75,-46.25 18.25,-46.25 18.25,-37.75 9.75,-37.75 9.75,-46.25 ; 23.75,-46.25 32.25,-46.25 32.25,-37.75 23.75,-37.75 23.75,-46.25 ; 37.75,-46.25 46.25,-46.25 46.25,-37.75 37.75,-37.75 37.75,-46.25 ; 51.75,-46.25 60.25,-46.25 60.25,-37.75 51.75,-37.75 51.75,-46.25
Top Designator:
  text ".Designator" at 20.382,-21.633 h1.52